# Altium integrated library SN74LS283N.IntLib: 1 symbol
Pins are listed as number, name and electrical type; pins without a type are passive.

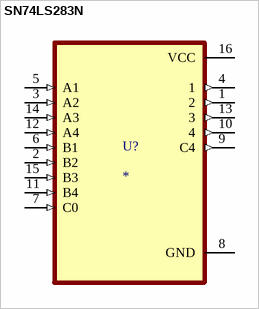
[diagram p0: symbol SN74LS283N]

## SN74LS283N
designator U?
4-Bit Binary Full Adders With Fast Carry 16-PDIP 0 to 70; MP: SN74LS283N; MF: Texas Instruments; Package: PDIP-16 Texas Instruments; Availability: Good; Value: *; Price: None; Check_prices: https://www.snapeda.com/parts/SN74LS283N/Texas%20Instruments/view-part/454899/?ref=eda; SnapEDA_Link: https://www.snapeda.com/parts/SN74LS283N/Texas%20Instruments/view-part/454899/?ref=snap; Purchase-URL: https://pricing.snapeda.com/search/part/SN74LS283N/?ref=eda
footprint DIP794W45P254L1969H508Q16
pins: 1 2 (out), 2 B2 (in), 3 A2 (in), 4 1 (out), 5 A1 (in), 6 B1 (in), 7 C0 (in), 8 GND (power), 9 C4 (out), 10 4 (out), 11 B4 (in), 12 A4 (in), 13 3 (out), 14 A3 (in), 15 B3 (in), 16 VCC (power)